# Altium schematic symbol library Basal.SchLib: 108 symbols
Pins are listed as number, name and electrical type; pins without a type are passive.

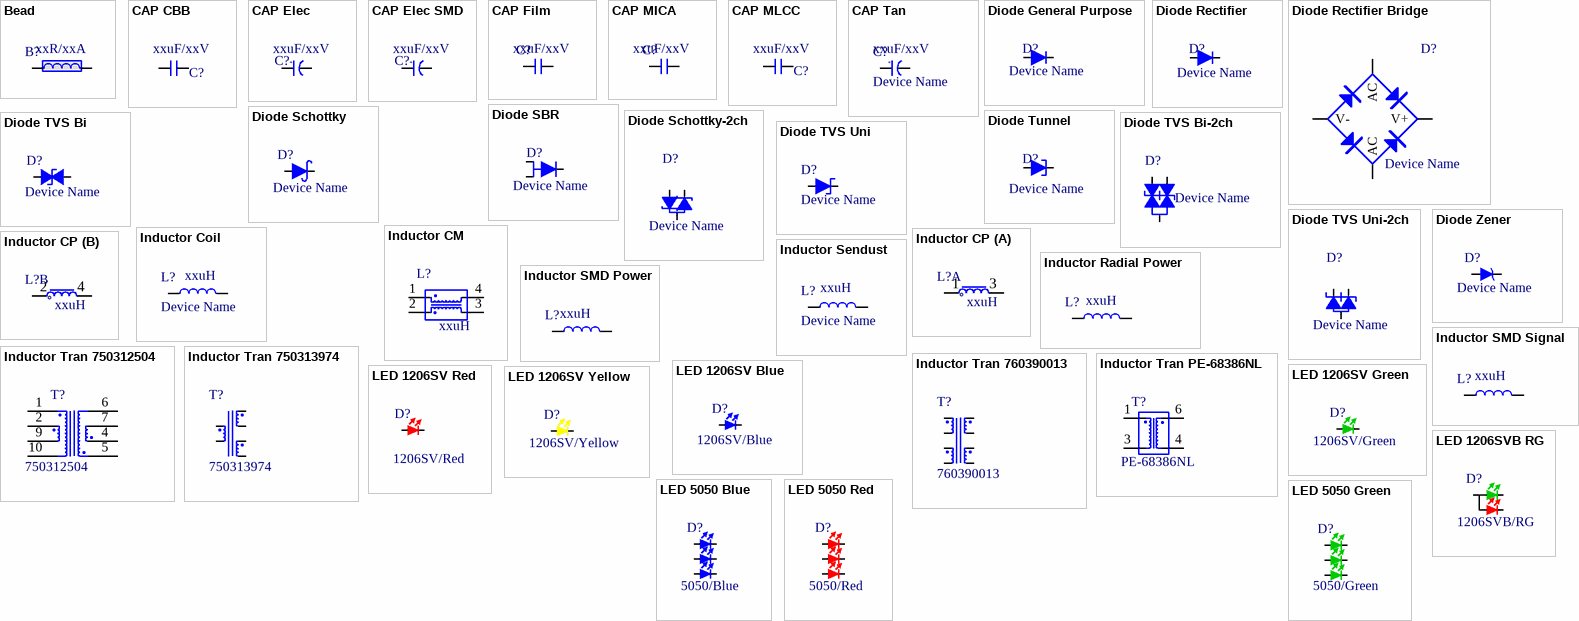
[diagram p0: symbols Bead to LED 5050 Red]

## Bead
designator B?, comment Sch Name: xxR/xxA  (hidden comment: Device Name)
Bead; Manufacture: Device Name
footprint Bead_0805 (贴片电阻0603封装)
footprint Bead_0603 (贴片电阻0603封装)
footprint Bead_1206 (贴片电阻1206封装)
pins: 1, 2

## CAP CBB
designator C?, comment Sch Name: xxuF/xxV  (hidden comment: Device Name)
CAP CBB; Manufacture: Device Name
footprint CAP MLCC 0805 (贴片无极性电容0805封装)
pins: 1, 2

## CAP Elec
designator C?, comment Sch Name: xxuF/xxV  (hidden comment: Device Name)
CAP Aluminum Electrolytic; Manufacture: Device Name
footprint CAP Elec 1F - D X H(φ引线直径)
footprint CAP Elec 2.0-5.0x12.0(φ0.5)
footprint CAP Elec 2.5-6.3X9.0(φ0.6)
footprint CAP Elec 2.5-6.3X11.0(φ0.6)
footprint CAP Elec 3.5-8.0X9.0(φ0.6)
footprint CAP Elec 3.5-8.0X12.0(φ0.6)
footprint CAP Elec 3.5-8.0X12.0(φ0.6) Horizontal
footprint CAP Elec 3.5-8.0X16.0(φ0.6)
footprint CAP Elec 3.5-8.0X16.0(φ0.6) Horizontal
footprint CAP Elec 5.0-10.0X12.0(φ0.6)
footprint CAP Elec 5.0-10.0X12.0(φ0.6) Horizontal
footprint CAP Elec 5.0-10.0X20.0(φ0.6)
footprint CAP Elec 5.0-10.0X20.0(φ0.6) Horizontal
footprint CAP Elec 5.0-12.5X20.0(φ0.6)
footprint CAP Elec 5.0-12.5X20.0(φ0.6) Horizontal
footprint CAP Elec 5.0-12.5X25.0(φ0.6)
footprint CAP Elec 5.0-12.5X25.0(φ0.6) Horizontal
footprint CAP Elec 5.0-12.5X30.0(φ0.6)
footprint CAP Elec 5.0-12.5X30.0(φ0.6) Horizontal
footprint CAP Elec 5.0-12.5X30.0(φ0.6) Horizontal1
footprint CAP Elec 7.5-18.0X40.0(φ0.8)
pins: 1, 2
1 alternate drawing of the same symbol
text: +

## CAP Elec SMD
designator C?, comment Sch Name: xxuF/xxV  (hidden comment: Device Name)
CAP Aluminum Electrolytic SMD; Manufacture: Device Name
footprint CAP Elec SMD φ6.3X5.8
footprint CAP Elec SMD φ8X10.2
footprint CAP Elec SMD φ12X13.5
footprint CAP Elec SMD φ16X16.5
footprint CAP Elec SMD φ16X21.5
footprint CAP Elec SMD D X H
footprint CAP Elec SMD φ10X10.2
pins: 1, 2
1 alternate drawing of the same symbol
text: +

## CAP Film
designator C?, comment Sch Name: xxuF/xxV  (hidden comment: Device Name)
CAP Film; Manufacture: Device Name
footprint CAP Film 1TYPE F - L X W (X H)(φd)
footprint CAP Film WIMA 2.5-5.5X4.6X10(φ0.5)
footprint CAP Film WIMA 5.0-7.0X5.5X11(φ0.5)
footprint CAP Film WIMA 5.0-7.2X2.5X6.6(φ0.5) (Footprint not found)
footprint CAP Film WIMA 5.0-7.2X4.5X6.0(φ0.5) (Footprint not found)
footprint CAP Film WIMA 5.0-7.2X5.0X10.0(φ0.5)
footprint CAP Film WIMA 5.0-7.2X4.5X10.0(φ0.5)
footprint CAP Film WIMA 5.0-7.2X6.5X8.0(φ0.5) (Footprint not found)
footprint CAP Film WIMA 5.0-7.2X7.2X8.5(φ0.5) (Footprint not found)
footprint CAP Film WIMA 5.0-7.2X7.2X13(φ0.5)
footprint CAP Film WIMA 5.0-8.5X7.2X10.0(φ0.5)
footprint CAP Film WIMA 5.0-8.5X7.2X14(φ0.8) Horizontal
footprint CAP Film WIMA 5.0-8.5X7.2X14.0(φ0.5)
footprint CAP Film WIMA 15-18.0X5.0X11.0(φ0.8)
footprint CAP Film WIMA 27.6-32X11X21(φ0.8)
footprint CAP Film WIMA 27.6-32X15X26(φ0.8)
pins: 1, 2

## CAP MICA
designator C?, comment Sch Name: xxuF/xxV  (hidden comment: Device Name)
CAP MICA; Manufacture: Device Name
footprint CAP MICA 1TYPE F - L X W (X H)
footprint CAP MICA 6.0-7.5X3.5(φ0.8)
footprint CAP MICA 8.5-15.0X4.0(φ0.8)
footprint CAP MICA 11.5-22.0X10.0(φ0.8)
pins: 1, 2

## CAP MLCC
designator C?, comment Sch Name: xxuF/xxV  (hidden comment: xxuF/xxV/Footprint)
CAP MLCC; Manufacture: xxuF/xxV/Footprint
footprint CAP MLCC 0402 (贴片无极性电容0402封装)
footprint CAP MLCC 0603 (贴片无极性电容0603封装)
footprint CAP MLCC 0805 (贴片无极性电容0805封装)
footprint CAP MLCC 1206 (贴片无极性电容1206封装)
footprint CAP MLCC 1210 (贴片无极性电容1210封装)
footprint CAP MLCC 1812 (贴片无极性电容1812封装)
footprint CAP MLCC 2220
footprint CAP MLCC 1206 TAIYO (贴片无极性电容1206封装)
footprint CAP MLCC 1808 (贴片无极性电容1812封装)
pins: 1, 2

## CAP Tan
designator C?, comment Device Name  Sch Name: xxuF/xxV
CAP Tantalum; Manufacture: Device Name
footprint CAP Tant 0805/2012-10 (钽电容N型封装)
footprint CAP Tant 1206/3216-18 (钽电容A型封装)
footprint CAP Tant 1210/3528-21 (钽电容B型封装)
footprint CAP Tant 2312/6032-28 (钽电容C型封装)
footprint CAP Tant 2917/7343-31 (钽电容D型封装)
footprint CAP Tant 2917/7343-43 (钽电容E型封装)
footprint CAP Tant 2924/7361-38 (钽电容V型封装)
footprint CAP Tant 1Footprint - H
pins: 1, 2
text: +

## Diode General Purpose
designator D?, comment Device Name
Diode General Purpose; Manufacture: Device Name; Sch Name: Device Name
footprint DIODE SMA(DO-214AC) (SS(1~3)4系列贴片二极管)
footprint DIODE SMB(CASE-403A)
footprint DIODE SMC(DO-214AB) (SS54贴片肖特基二极管)
footprint Diode SOD123 (贴片二极管SOD-123封装)
footprint Diode SOD323
footprint DIODE SOD57
footprint Diode SOD523
footprint DIODE DO-41 (400mil间距直插二极管封装)
footprint DIODE CASE 017AA-01 (400mil间距直插二极管封装)
footprint DIODE DO-35 (400mil间距直插二极管封装)
pins: 1 A, 2 C

## Diode Rectifier
designator D?, comment Device Name
Diode Rectifier; Manufacture: Device Name; Sch Name: Device Name
footprint DIODE SMA(DO-214AC) (SS(1~3)4系列贴片二极管)
footprint DIODE SMB(CASE-403A)
footprint DIODE SMC(DO-214AB) (SS54贴片肖特基二极管)
footprint Diode SOD123 (贴片二极管SOD-123封装)
footprint Diode SOD323
footprint DIODE SOD57
footprint DIODE CASE194
footprint Diode SOD523
footprint Diode DO-201AD (500mil间距直插二极管封装)
footprint DIODE DO-41 (400mil间距直插二极管封装)
footprint DIODE CASE 017AA-01 (400mil间距直插二极管封装)
footprint DIODE DO-35 (400mil间距直插二极管封装)
pins: 1 A, 2 C

## Diode Rectifier Bridge
designator D?, comment Device Name
Diode Rectifier Bridge; Manufacture: Device Name; Sch Name: Device Name
pins: 1 AC, 2 AC, 3 V+, 4 V-

## Diode SBR
designator D?, comment Device Name
Diode Super Barrier Rectifier; Manufacture: Device Name; Sch Name: Device Name
footprint DIODE PowerDI 5
footprint DIODE SMPC(TO-277A)
pins: 1 A, 2 A, 3 C

## Diode Schottky
designator D?, comment Device Name
Diode Schottky; Manufacture: Device Name; Sch Name: Device Name
footprint DIODE SMA(DO-214AC) (SS(1~3)4系列贴片二极管)
footprint DIODE SMB(CASE-403A)
footprint DIODE SMC(DO-214AB) (SS54贴片肖特基二极管)
footprint Diode SOD123 (贴片二极管SOD-123封装)
footprint Diode SOD323
footprint Diode SOD523
footprint Diode PowerDI 123 (贴片二极管SOD-123封装)
footprint TO252-DIODE (MOS管TO-252封装)
footprint DIODE DO-41 (400mil间距直插二极管封装)
footprint DIODE CASE 017AA-01 (400mil间距直插二极管封装)
footprint DIODE DO-35 (400mil间距直插二极管封装)
pins: 1 A, 2 B

## Diode Schottky-2ch
designator D?, comment Device Name
Diode Schottky-2ch; Manufacture: Device Name; Sch Name: Device Name
footprint SOT23-3 (贴片MOS的SOT-23封装)
pins: 1, 2, 3

## Diode Tunnel
designator D?, comment Device Name
Diode Tunnel; Manufacture: Device Name; Sch Name: Device Name
pins: 1 A, 2 B

## Diode TVS Bi
designator D?, comment Device Name
Diode TVS Bidrectional; Manufacture: Device Name; Sch Name: Device Name
footprint DIODE SMA(DO-214AC) (SS(1~3)4系列贴片二极管)
footprint DIODE SMB(CASE-403A)
footprint DIODE SMC(DO-214AB) (SS54贴片肖特基二极管)
footprint Diode SOD123 (贴片二极管SOD-123封装)
footprint Diode SOD323
footprint Diode SOD523
pins: 1, 2

## Diode TVS Bi-2ch
designator D?, comment Device Name
Diode TVS Bi-2ch; Manufacture: Device Name; Sch Name: Device Name
footprint SOT23-3 (贴片MOS的SOT-23封装)
pins: 1, 2, 3

## Diode TVS Uni
designator D?, comment Device Name
Diode TVS Unidirectional; Manufacture: Device Name; Sch Name: Device Name
footprint DIODE SMA(DO-214AC) (SS(1~3)4系列贴片二极管)
footprint DIODE SMB(CASE-403A)
footprint DIODE SMC(DO-214AB) (SS54贴片肖特基二极管)
footprint Diode SOD123 (贴片二极管SOD-123封装)
footprint Diode SOD323
footprint Diode SOD523
pins: 1, 2

## Diode TVS Uni-2ch
designator D?, comment Device Name
Diode TVS Uni-2ch; Manufacture: Device Name; Sch Name: Device Name
footprint SOT23-3 (贴片MOS的SOT-23封装)
pins: 1, 2, 3

## Diode Zener
designator D?, comment Device Name
Diode Zener; Manufacture: Device Name; Sch Name: Device Name
footprint DIODE SMA(DO-214AC) (SS(1~3)4系列贴片二极管)
footprint DIODE SMB(CASE-403A)
footprint DIODE SMC(DO-214AB) (SS54贴片肖特基二极管)
footprint Diode SOD123 (贴片二极管SOD-123封装)
footprint Diode SOD323
footprint Diode SOD523
footprint DIODE DO-41 (400mil间距直插二极管封装)
footprint DIODE CASE 017AA-01 (400mil间距直插二极管封装)
footprint DIODE DO-35 (400mil间距直插二极管封装)
pins: 1 A, 2 K

## Inductor CM
designator L?, comment Sch Name: xxuH  (hidden comment: Device Name)
Inductor Common Mode Choke; Manufacture: Device Name
footprint INDC CM ACM4532
footprint INDC CM ACM7060
footprint INDC CM ACM9070
footprint INDC CM ZJYS51R5-2PT
footprint INDC CM ACT45B
pins: 1, 2, 3, 4

## Inductor Coil
designator L?, comment Device Name  Sch Name: xxuH
Inductor Coil; Manufacture: Device Name
footprint INDC coil N-DXH (10-24X10) Vertical
pins: 1, 2

## Inductor CP
designator L?, comment Sch Name: xxuH  (hidden comment: Device Name)
Inductor Coupled; Manufacture: Device Name
footprint INDC CP MSD1278 (12*12*8共模电感)
footprint INDC CP MSD7342 (7.5*7.5*4.6共模电感)
part A pins: 1, 3
part B pins: 2, 4
part A text: 。
part B text: 。

## Inductor Radial Power
designator L?, comment Sch Name: xxuH  (hidden comment: Device Name)
Inductor Radial Power; Manufacture: Device Name
footprint INDC THP TDK_TSL0808
footprint INDC THP TOKO_A7503AY
footprint INDC THP TOKO_A7503CY
pins: 1, 2

## Inductor Sendust
designator L?, comment Device Name  Sch Name: xxuH
Inductor Sendust; Manufacture: Device Name
footprint L-SENDUST(45-1)
footprint L-SENDUST(45-2)
footprint L-SENDUST(40)
footprint L-SENDUST(18)
footprint L-SENDUST(21)-1
footprint L-SENDUST(16)-1
footprint L-SENDUST(16)-Vertical
pins: 1, 2

## Inductor SMD Power
designator L?, comment Sch Name: xxuH  (hidden comment: Device Name)
Inductor SMD Power; Manufacture: Device Name
footprint INDC SMDP 744325(11x10.5)
footprint INDC SMDP 744355(13x13)
footprint INDC SMDP 744363(PH20) (Wurth大电流电感20 x 20 x 14.5)
footprint INDC SMDP 7447709(12X12X10)
footprint INDC SMDP 74435581200 (22X22.5X12.5)
footprint INDC SMDP CDEP147 (扁铜线电感14.9*14.9*8.0mm)
footprint INDC SMDP CEP1712NP (SUMIDA-CEP1712NP)
footprint INDC SMDP DR73 (TDK贴片功率电感)
footprint INDC SMDP DR74 (TDK贴片功率电感)
footprint INDC SMDP IHLP1212 (VISHAY大电流电感IHLP1212)
footprint INDC SMDP IHLP-1616 (VISHAY大电流电感IHLP1616)
footprint INDC SMDP IHLP-2020 (VISHAY大电流电感IHLP2020)
footprint INDC SMDP IHLP-2525 (VISHAY大电流电感IHLP2525)
footprint INDC SMDP IHLP-3232 (VISHAY大电流电感IHLP3232)
footprint INDC SMDP IHLP-4040 (VISHAY大电流电感IHLP4040)
footprint INDC SMDP IHLP-5050 (VISHAY大电流电感IHLP5050)
footprint INDC SMDP IHLP-6767 (VISHAY大电流电感IHLP6767)
footprint INDC SMDP SER2915H/L (PH26B/C) (SER2915H/L)
footprint INDC SMDP SER2918H/L (PH26A) (SER2915H/L)
footprint INDC SMDP SLF60XX (TDK贴片功率电感)
footprint INDC SMDP SLF70XX (TDK贴片功率电感)
footprint INDC SMDP SLF101XX (TDK贴片功率电感)
footprint INDC SMDP SLF125XX
footprint INDC SMDP SWPA3015 (TDK贴片功率电感)
footprint INDC SMDP SWPA4030 (TDK贴片功率电感)
footprint INDC SMDP SWPA5040 (TDK贴片功率电感)
footprint INDC SMDP SWPA6045 (TDK贴片功率电感)
footprint INDC SMDP SWPA8065 (TDK贴片功率电感)
footprint INDC SMDP SWPA252012 (TDK贴片功率电感)
footprint INDC 0805 (贴片电感0805封装)
footprint INDC 1210 (贴片电感1210封装)
footprint INDC 1812 (贴片电感1210封装)
pins: 1, 2

## Inductor SMD Signal
designator L?, comment Sch Name: xxuH  (hidden comment: Device Name)
Inductor SMD Signal; Manufacture: Device Name
footprint INDC 0805 (贴片电感0805封装)
footprint INDC 1210 (贴片电感1210封装)
footprint INDC 1812 (贴片电感1210封装)
pins: 1, 2

## Inductor Tran 750312504
designator T?, comment 750312504
Inductor Transformer 750312504; Manufacture: 750312504; Sch Name: 750312504
footprint INDC TRAN Wurth 750312504 (SOP, 10-Leads, Body 13.46x13.46mm, Pitch 2.48mm, IPC Low Density)
pins: 1, 2, 4, 5, 6, 7, 9, 10

## Inductor Tran 750313974
designator T?, comment 750313974
Inductor Transformer 750313974; Manufacture: 750313974; Sch Name: 750313974
footprint INDC TRAN Wurth 750313974 (SOP, 8-Leads, Body 13.3x13.6mm (max), Pitch 2.49mm, IPC Medium Density)
pins: 1, 4, 5, 6, 7, 8

## Inductor Tran 760390013
designator T?, comment 760390013
Inductor Transformer 760390013; Manufacture: 760390013; Sch Name: 760390013
footprint INDC TRAN Wurth 760390013 (SOP, 6-Leads, Body 7.00x7.00mm, Pitch 1.85mm, IPC Medium Density)
pins: 1, 2, 2, 3, 4, 5, 5, 6

## Inductor Tran PE-68386NL
designator T?, comment PE-68386NL
Inductor Transformer PE-68386NL; Manufacture: PE-68386NL; Sch Name: PE-68386NL
footprint INDC TRAN PE-68386NL (SOP, 6-Leads, Body 7.00x7.00mm, Pitch 1.85mm, IPC Medium Density)
pins: 1, 3, 4, 6

## LED 1206SV Blue
designator D?, comment Sch Name: 1206SV/Blue  (hidden comment: 12-21/BHC-ZL2N1TY/2C)
LED 1206SV Blue; Manufacture: 12-21/BHC-ZL2N1TY/2C
footprint LED_1206_SV_BLUE
pins: 1, 2

## LED 1206SV Green
designator D?, comment Sch Name: 1206SV/Green  (hidden comment: 12-21/GHC-YQ1R1B18Y/2C)
LED 1206SV Green; Manufacture: 12-21/GHC-YQ1R1B18Y/2C
footprint LED_1206_SV_GREEN
pins: 1, 2

## LED 1206SV Red
designator D?, comment Sch Name: 1206SV/Red  (hidden comment: 12-21/R8C-AN1P2B/2D)
LED 1206SV Red; Manufacture: 12-21/R8C-AN1P2B/2D
footprint LED_1206_SV_Red
pins: 1, 2

## LED 1206SV Yellow
designator D?, comment Sch Name: 1206SV/Yellow  (hidden comment: Device Name)
LED 1206SV Yellow; Manufacture: Device Name
footprint LED_1206_SV_YELLOW
pins: 1, 2

## LED 1206SVB RG
designator D?, comment Sch Name: 1206SVB/RG  (hidden comment: 12-22/R7G6C-A10/2C)
LED 1206SVB RG; Manufacture: 12-22/R7G6C-A10/2C
footprint LED_1206_SVB_RG
pins: 1, 2 R, 3 G

## LED 5050 Blue
designator D?, comment Sch Name: 5050/Blue  (hidden comment: Device Name)
LED 5050 Blue; Manufacture: Device Name
footprint LED_5050_B (5050封装蓝色LED)
pins: 1 A1, 2 A2, 3 A3, 4 C3, 5 C2, 6 C1

## LED 5050 Green
designator D?, comment Sch Name: 5050/Green  (hidden comment: Device Name)
LED 5050 Green; Manufacture: Device Name
footprint LED_5050_G (5050封装绿色LED)
pins: 1 A1, 2 A2, 3 A3, 4 C3, 5 C2, 6 C1

## LED 5050 Red
designator D?, comment Sch Name: 5050/Red  (hidden comment: Device Name)
LED 5050 Red; Manufacture: Device Name
footprint LED_5050_R (5050封装红色LED)
pins: 1 A1, 2 A2, 3 A3, 4 C3, 5 C2, 6 C1

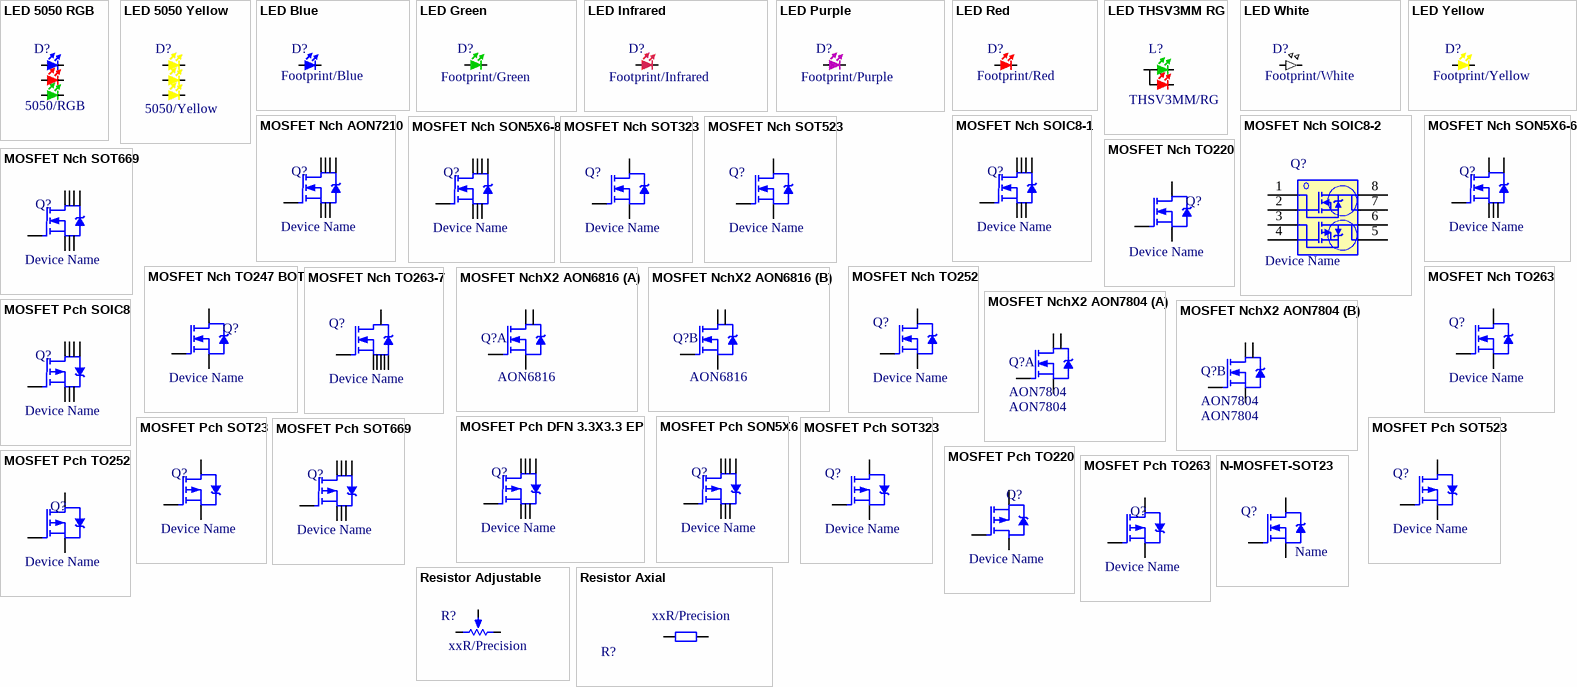
[diagram p1: symbols LED 5050 RGB to Resistor Axial]

## LED 5050 RGB
designator D?, comment Sch Name: 5050/RGB  (hidden comment: Device Name)
LED 5050 RGB; Manufacture: Device Name
footprint LED_5050_RGB (5050封装3色LED)
footprint LED_RGB_9280 (5050封装3色LED)
pins: 1 A1, 2 A2, 3 A3, 4 C3, 5 C2, 6 C1

## LED 5050 Yellow
designator D?, comment Sch Name: 5050/Yellow  (hidden comment: Device Name)
LED 5050 Yellow; Manufacture: Device Name
footprint LED_5050_Y (5050封装黄色LED)
pins: 1 A1, 2 A2, 3 A3, 4 C3, 5 C2, 6 C1

## LED Blue
designator D?, comment Sch Name: Footprint/Blue  (hidden comment: Device Name)
LED Blue; Manufacture: Device Name
footprint LED_0805_B (蓝色贴片0805LED)
footprint LED_0603_B (蓝色贴片0603LED)
footprint LED_1210/3528_B (蓝色贴片1210/3528LED)
footprint LED_1206_B (蓝色贴片1206LED)
footprint LED_TH3MM_B (直插3MMLED_蓝色)
footprint LED_TH5MM_B (直插5MMLED_黄色)
pins: 1, 2

## LED Green
designator D?, comment Sch Name: Footprint/Green  (hidden comment: Device Name)
LED Green; Manufacture: Device Name
footprint LED_0805_G (绿色贴片0805LED)
footprint LED_0603_G (绿色贴片0603LED)
footprint LED_1210/3528_G (绿色贴片1210/3528LED)
footprint LED_1206_G (绿色贴片1206LED)
footprint LED_TH3MM_G (直插3MMLED_绿色)
footprint LED_TH5MM_G (直插5MMLED_绿色)
pins: 1, 2

## LED Infrared
designator D?, comment Sch Name: Footprint/Infrared  (hidden comment: Device Name)
LED Infrared; Manufacture: Device Name
footprint LED_Infrared-3W (直插5MMLED_黄色)
footprint LED_Infrared-5W (直插5MMLED_黄色)
footprint LED_1206_Infrared (红色贴片1206LED)
footprint LED_1210/3528_R (红色贴片1210/3528LED)
footprint LED_1206_bottom
pins: 1, 2

## LED Purple
designator D?, comment Sch Name: Footprint/Purple  (hidden comment: Device Name)
LED Purple; Manufacture: Device Name
footprint LED_0603_P (紫色贴片0603LED)
pins: 1, 2

## LED Red
designator D?, comment Sch Name: Footprint/Red  (hidden comment: Device Name)
LED Red; Manufacture: Device Name
footprint LED_0805_R (红色贴片0805LED)
footprint LED_0603_R (红色贴片0603LED)
footprint LED_1206_R (红色贴片1206LED)
footprint LED_1210/3528_R (红色贴片1210/3528LED)
footprint LED_TH3MM_R (直插3MMLED_红色)
footprint LED_TH5MM_R (直插5MMLED_红色、)
pins: 1, 2

## LED THSV3MM RG
designator L?, comment Sch Name: THSV3MM/RG  (hidden comment: Device Name)
LED THSV3MM RG; Manufacture: Device Name
footprint LED_TH3MM_RG (直插弯3MMLED_RG)
pins: 1, 2, 3

## LED White
designator D?, comment Sch Name: Footprint/White  (hidden comment: Device Name)
LED White; Manufacture: Device Name
footprint LED_0805_W (白色贴片0805LED)
footprint LED_0603_W (白色贴片0603LED)
pins: 1, 2

## LED Yellow
designator D?, comment Sch Name: Footprint/Yellow  (hidden comment: Device Name)
LED Yellow; Manufacture: Device Name
footprint LED_0805_Y (黄色贴片0805LED)
footprint LED_0603_Y (黄色贴片0603LED)
footprint LED_1210/3528_Y (黄色贴片1210/3528LED)
footprint LED_1206_Y (黄色贴片1206LED)
footprint LED_TH3MM_Y (直插3MMLED_黄色)
footprint LED_TH5MM_Y (直插5MMLED_黄色)
pins: 1, 2

## MOSFET Nch AON7210
designator Q?, comment Device Name
N-channel AON7210; Manufacture: Device Name; Sch Name: Device Name
footprint DFN3.3X3.3_8L EP1
pins: 1 S, 2 S, 3 S, 4 G, 5 D, 6 D, 7 D, 8 D

## MOSFET Nch SOIC8-1
designator Q?, comment Device Name
N-channel; Manufacture: Device Name; Sch Name: Device Name
footprint SOIC8_1.27 (SOP, 8-Leads, Pitch 1.27mm)
pins: 1 S, 2 S, 3 S, 4 G, 5 D, 6 D, 7 D, 8 D

## MOSFET Nch SOIC8-2
designator Q?, comment Device Name
MOSFET NchX2 SOIC8-2; Manufacture: Device Name; Sch Name: Device Name
footprint SOIC8_1.27 (SOP, 8-Leads, Pitch 1.27mm)
pins: 1 S1, 2 G1, 3 S2, 4 G2, 5 D2, 6 D2, 7 D1, 8 D1

## MOSFET Nch SON5X6-6
designator Q?, comment Device Name
N-channel MOSFET; Manufacture: Device Name; Sch Name: Device Name
footprint SON5X6-6
footprint SON5X6-6 PWR
pins: 1 S, 2 S, 3 S, 4 G, 5 D, 8 D

## MOSFET Nch SON5X6-8
designator Q?, comment Device Name
N-channel MOSFET; Manufacture: Device Name; Sch Name: Device Name
footprint SON5X6-8
footprint SON5X6-8 PWR
pins: 1 S, 2 S, 3 S, 4 G, 5 D, 6 D, 7 D, 8 D

## MOSFET Nch SOT323
designator Q?, comment Device Name
N-channel MOSFET; Manufacture: Device Name; Sch Name: Device Name
footprint SOT323
pins: 1 G, 2 S, 3 D

## MOSFET Nch SOT523
designator Q?, comment Device Name
N-channel MOSFET; Manufacture: Device Name; Sch Name: Device Name
footprint SOT523
pins: 1 G, 2 S, 3 D

## MOSFET Nch SOT669
designator Q?, comment Device Name
N-channel; Manufacture: Device Name; Sch Name: Device Name
footprint SOT669 (SOP, 8-Leads, Pitch 1.27mm)
footprint SOT669 PWR (SOP, 8-Leads, Pitch 1.27mm)
pins: 1 S, 2 S, 3 S, 4 G, 5 D, 6 D, 7 D, 8 D

## MOSFET Nch TO220
designator Q?, comment Device Name
N- channe MOSFET; Manufacture: Device Name; Sch Name: Device Name
footprint TO220-BOT
footprint TO220-TOP
pins: 1 G, 2 D, 3 S

## MOSFET Nch TO247 BOT
designator Q?, comment Device Name
N- channe MOSFET; Manufacture: Device Name; Sch Name: Device Name
footprint TO247-BOT
pins: 1 G, 2 D, 3 S

## MOSFET Nch TO252
designator Q?, comment Device Name
N-channel MOSFET; Manufacture: Device Name; Sch Name: Device Name
footprint TO252 (MOS管TO-252封装)
footprint TO252_PWR (MOS管TO-252封装,带散热过孔)
pins: 1 G, 2 D, 3 S

## MOSFET Nch TO263
designator Q?, comment Device Name
N-channel MOSFET; Manufacture: Device Name; Sch Name: Device Name
footprint TO263-2
footprint TO252_PWR (MOS管TO-252封装,带散热过孔)
pins: 1 G, 2 D, 3 S

## MOSFET Nch TO263-7
designator Q?, comment Device Name
N-channel MOSFET; Manufacture: Device Name; Sch Name: Device Name
footprint TO263-7
pins: 1 G, 2 S, 3 S, 5 S, 6 S, 7 S, 8 D

## MOSFET NchX2 AON6816
designator Q?, comment AON6816
MOSFET NchX2 AON6816; Manufacture: AON6816; Sch Name: AON6816
footprint SON5X6-8 EP2
part A pins: 1 S1, 2 G1, 7 D1, 8 D1
part B pins: 3 S2, 4 G2, 5 D2, 6 D2

## MOSFET NchX2 AON7804
designator Q?, comment AON7804
MOSFET NchX2 AON7804; Manufacture: AON7804; Sch Name: AON7804
footprint DFN3X3_8L_EP2
part A pins: 1 D, 2 D, 7 S, 8 G
part B pins: 3 S, 4 G, 5 D, 6 D

## MOSFET Pch DFN 3.3X3.3 EP
designator Q?, comment Device Name
P-channel DFN 3.3X3.3 EP; Manufacture: Device Name; Sch Name: Device Name
footprint DFN3.3X3.3_8L EP1
pins: 1 S, 2 S, 3 S, 4 G, 5 D, 6 D, 7 D, 8 D

## MOSFET Pch SOIC8
designator Q?, comment Device Name
P-channel MOSFET; Manufacture: Device Name; Sch Name: Device Name
footprint SOIC8_1.27 (SOP, 8-Leads, Pitch 1.27mm)
pins: 1 S, 2 S, 3 S, 4 G, 5 D, 6 D, 7 D, 8 D

## MOSFET Pch SON5X6
designator Q?, comment Device Name
P-channel MOSFET; Manufacture: Device Name; Sch Name: Device Name
footprint SON5X6-8
footprint SON5X6-8 PWR
pins: 1 S, 2 S, 3 S, 4 G, 5 D, 6 D, 7 D, 8 D

## MOSFET Pch SOT23
designator Q?, comment Device Name
P-channel MOSFET; Manufacture: Device Name; Sch Name: Device Name
footprint SOT23-3 (贴片MOS的SOT-23封装)
footprint SOT23-3W (贴片MOS的SOT-23封装)
pins: 1 G, 2 S, 3 D

## MOSFET Pch SOT323
designator Q?, comment Device Name
P-channel MOSFET; Manufacture: Device Name; Sch Name: Device Name
footprint SOT323
pins: 1 G, 2 S, 3 D

## MOSFET Pch SOT523
designator Q?, comment Device Name
P-channel MOSFET; Manufacture: Device Name; Sch Name: Device Name
footprint SOT523
pins: 1 G, 2 S, 3 D

## MOSFET Pch SOT669
designator Q?, comment Device Name
P-channel MOSFET; Manufacture: Device Name; Sch Name: Device Name
footprint SOT669 PWR (SOP, 8-Leads, Pitch 1.27mm)
footprint SOT669 (SOP, 8-Leads, Pitch 1.27mm)
pins: 1 S, 2 S, 3 S, 4 G, 5 D, 6 D, 7 D, 8 D

## MOSFET Pch TO220
designator Q?, comment Device Name
P-channel MOSFET; Manufacture: Device Name; Sch Name: Device Name
footprint TO220
footprint TO220-BOT
footprint TO220-TOP
pins: 1 G, 2 D, 3 S

## MOSFET Pch TO252
designator Q?, comment Device Name
P-channel MOSFET; Manufacture: Device Name; Sch Name: Device Name
footprint TO252 (MOS管TO-252封装)
footprint TO252_PWR (MOS管TO-252封装,带散热过孔)
pins: 1 G, 2 D, 3 S

## MOSFET Pch TO263
designator Q?, comment Device Name
P-channel MOSFET; Manufacture: Device Name; Sch Name: Device Name
footprint TO263-2
pins: 1 G, 2 D, 3 S

## N-MOSFET-SOT23
designator Q?, comment Sch Name: Name  (hidden comment: Device Name)
N-channel MOSFET; Manufacture: Device Name
footprint SOT23-3 (贴片MOS的SOT-23封装)
footprint SOT23-3W (贴片MOS的SOT-23封装)
pins: 1 G, 2 S, 3 D

## Resistor Adjustable
designator R?, comment Sch Name: xxR/Precision  (hidden comment: Device Name)
Resistor Adjustable; Manufacture: Device Name
footprint RES ADJ3296
footprint RES ADJ3224W
pins: 1 TOP, 2 TAP, 3 BOT

## Resistor Axial
designator R?, comment Sch Name: xxR/Precision  (hidden comment: xxR/Precision/Footprint)
Resistor Through Hole; Manufacture: xxR/Precision/Footprint
footprint RES AXIAL-1/4W (400mil间距M型直插电阻封装)
footprint RES AXIAL-2W (900mil间距M型直插电阻封装)
footprint RES AXIAL-3W (900mil间距M型直插电阻封装)
pins: 1, 2

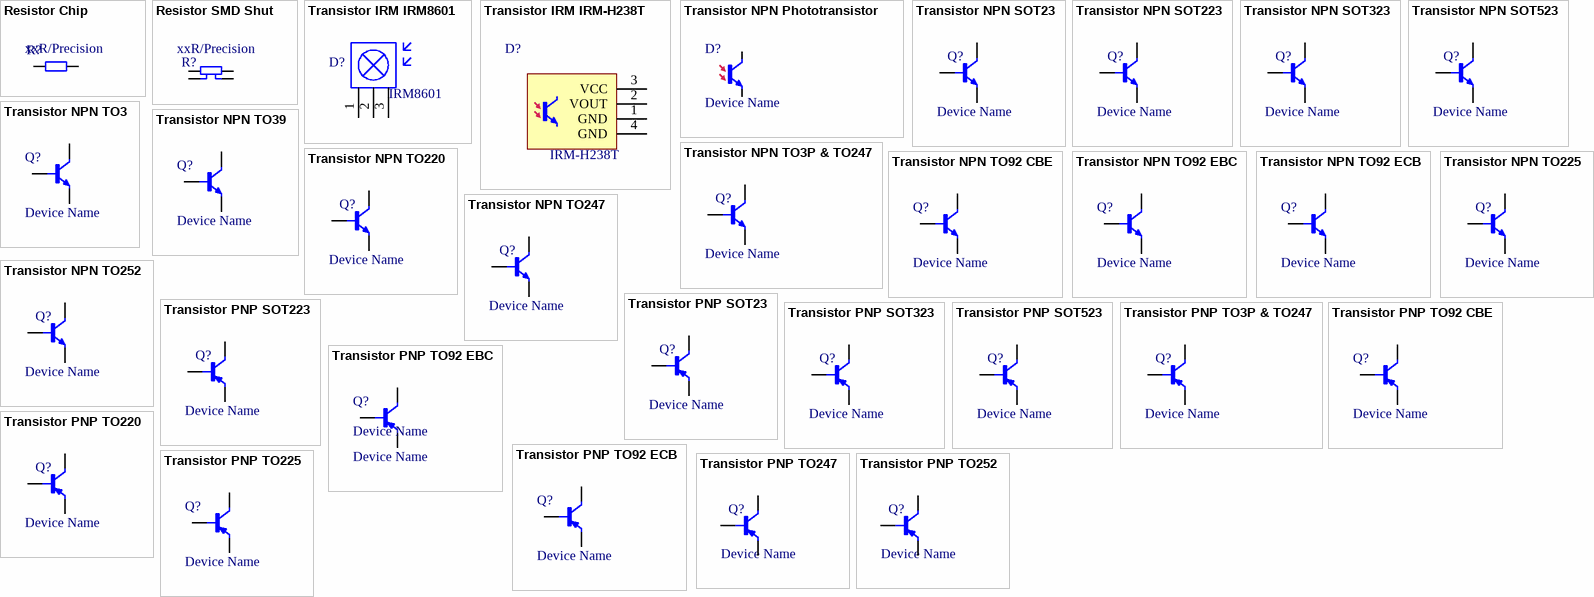
[diagram p2: symbols Resistor Chip to Transistor PNP TO252]

## Resistor Chip
designator R?, comment Sch Name: xxR/Precision  (hidden comment: xxR/Precision/Footprint)
Resistor Chip; Manufacture: xxR/Precision/Footprint
footprint RES 0402 (贴片电阻0402封装)
footprint RES 0603 (贴片电阻0603封装)
footprint RES 0805 (贴片电阻0805封装)
footprint RES 0612 (贴片电阻2512封装)
footprint RES 1206 (贴片电阻1206封装)
footprint RES 1210 (贴片电阻1210封装)
footprint RES 1812 (贴片电阻1812封装)
footprint RES 2010 (贴片电阻2010封装)
footprint RES 2512 (贴片电阻2512封装)
footprint RES 2512-shut (贴片电阻2512封装)
footprint RES 5930
footprint RES 1225 (贴片电阻1225封装)
footprint RES 3920
pins: 1, 2

## Resistor SMD Shut
designator R?, comment Sch Name: xxR/Precision  (hidden comment: xxR/Precision/Footprint)
Resistor SMD Shut; Manufacture: xxR/Precision/Footprint
footprint RES 2512-shut2 (贴片电阻2512封装)
footprint RES 2512-shut3 (贴片电阻2512封装)
pins: 1, 2, 3, 4

## Transistor IRM IRM8601
designator D?, comment IRM8601
Infrared Receiver Module; Manufacture: IRM8601; Sch Name: IRM8601
footprint Transistor IRM IRM8601 (红外遥控接收头)
pins: 1, 2, 3

## Transistor IRM IRM-H238T
designator D?, comment Sch Name: IRM-H238T  (hidden comment: IRM-H238T-TR2)
Infrared Receiver Module; Manufacture: IRM-H238T-TR2
footprint Transistor IRM IRM-H238T (红外遥控接收头)
pins: 1 GND, 2 VOUT, 3 VCC, 4 GND

## Transistor NPN Phototransistor
designator D?, comment Device Name
Infrared Phototransistor; Manufacture: Device Name; Sch Name: Device Name
footprint LED_1206_BLACK (红色贴片1206LED)
footprint LED_1210/3528_R (红色贴片1210/3528LED)
footprint LED_1206_bottom
pins: 1 C, 2 E

## Transistor NPN SOT23
designator Q?, comment Device Name
NPN Transistor; Manufacture: Device Name; Sch Name: Device Name
footprint SOT23-3 (贴片MOS的SOT-23封装)
footprint SOT23-3W (贴片MOS的SOT-23封装)
pins: 1 b (power), 2 e (power), 3 c (power)

## Transistor NPN SOT223
designator Q?, comment Device Name
NPN Transistor; Manufacture: Device Name; Sch Name: Device Name
footprint SOT223
pins: 1 b, 2 c, 3 e, 4 c

## Transistor NPN SOT323
designator Q?, comment Device Name
NPN Transistor; Manufacture: Device Name; Sch Name: Device Name
footprint SOT323
pins: 1 b (power), 2 e (power), 3 c (power)

## Transistor NPN SOT523
designator Q?, comment Device Name
NPN Transistor; Manufacture: Device Name; Sch Name: Device Name
footprint SOT523
pins: 1 b (power), 2 e (power), 3 c (power)

## Transistor NPN TO3
designator Q?, comment Device Name
NPN Transistor; Manufacture: Device Name; Sch Name: Device Name
footprint TO3
pins: 1 b (power), 2 e (power), 3 c (power)

## Transistor NPN TO3P & TO247
designator Q?, comment Device Name
NPN Transistor; Manufacture: Device Name; Sch Name: Device Name
footprint TO3P & TO247
pins: 1 B (power), 2 C (power), 3 E (power)

## Transistor NPN TO39
designator Q?, comment Device Name
NPN Transistor; Manufacture: Device Name; Sch Name: Device Name
footprint TO39
pins: 1 (power), 2 b (power), 3 c (power)

## Transistor NPN TO92 CBE
designator Q?, comment Device Name
NPN Transistor; Manufacture: Device Name; Sch Name: Device Name
footprint TO92
footprint TO92 Bent
pins: 1 c (power), 2 b (power), 3 e (power)

## Transistor NPN TO92 EBC
designator Q?, comment Device Name
NPN Transistor; Manufacture: Device Name; Sch Name: Device Name
footprint TO92
footprint TO92 Bent
pins: 1 e (power), 2 b (power), 3 c (power)

## Transistor NPN TO92 ECB
designator Q?, comment Device Name
NPN Transistor; Manufacture: Device Name; Sch Name: Device Name
footprint TO92
footprint TO92 Bent
pins: 1 e (power), 2 c (power), 3 b (power)

## Transistor NPN TO220
designator Q?, comment Device Name
NPN Transistor; Manufacture: Device Name; Sch Name: Device Name
footprint TO220
footprint TO220-TOP
footprint TO220-BOT
pins: 1 b (power), 2 c (power), 3 e (power)

## Transistor NPN TO225
designator Q?, comment Device Name
NPN Transistor; Manufacture: Device Name; Sch Name: Device Name
footprint TO225
footprint TO225-Heat Sink 10.5X15
footprint TO225-Heat Sink 17X23.5
footprint TO225-BOT
pins: 1 e (power), 2 c (power), 3 b (power)

## Transistor NPN TO247
designator Q?, comment Device Name
NPN Transistor; Manufacture: Device Name; Sch Name: Device Name
footprint TO247-BOT
pins: 1 B (power), 2 C (power), 3 E (power)

## Transistor NPN TO252
designator Q?, comment Device Name
NPN Transistor; Manufacture: Device Name; Sch Name: Device Name
footprint TO252 (MOS管TO-252封装)
footprint TO252_PWR (MOS管TO-252封装,带散热过孔)
pins: 1 b, 2 c, 3 e

## Transistor PNP SOT23
designator Q?, comment Device Name
PNP Transistor; Manufacture: Device Name; Sch Name: Device Name
footprint SOT23-3
footprint SOT23-3W (贴片MOS的SOT-23封装)
pins: 1 b (power), 2 e (power), 3 c (power)

## Transistor PNP SOT223
designator Q?, comment Device Name
PNP Transistor; Manufacture: Device Name; Sch Name: Device Name
footprint SOT223
pins: 1 b, 2 c, 3 e, 4 c

## Transistor PNP SOT323
designator Q?, comment Device Name
PNP Transistor; Manufacture: Device Name; Sch Name: Device Name
footprint SOT323
pins: 1 b (power), 2 e (power), 3 c (power)

## Transistor PNP SOT523
designator Q?, comment Device Name
PNP Transistor; Manufacture: Device Name; Sch Name: Device Name
footprint SOT523
pins: 1 b (power), 2 e (power), 3 c (power)

## Transistor PNP TO3P & TO247
designator Q?, comment Device Name
PNP Transistor; Manufacture: Device Name; Sch Name: Device Name
footprint TO3P & TO247
pins: 1 b, 2 c, 3 e

## Transistor PNP TO92 CBE
designator Q?, comment Device Name
PNP Transistor; Manufacture: Device Name; Sch Name: Device Name
footprint TO92
footprint TO92 Bent
pins: 1 e, 2 b, 3 c

## Transistor PNP TO92 EBC
designator Q?, comment Device Name
PNP Transistor; Manufacture: Device Name; Sch Name: Device Name
footprint TO92
footprint TO92 Bent
pins: 1 e, 2 b, 3 c

## Transistor PNP TO92 ECB
designator Q?, comment Device Name
PNP Transistor; Manufacture: Device Name; Sch Name: Device Name
footprint TO92
footprint TO92 Bent
pins: 1 e, 2 c, 3 b

## Transistor PNP TO220
designator Q?, comment Device Name
PNP Transistor; Manufacture: Device Name; Sch Name: Device Name
footprint TO220
footprint TO220S
footprint TO220-BOTTOM
pins: 1 b, 2 c, 3 e

## Transistor PNP TO225
designator Q?, comment Device Name
PNP Transistor; Manufacture: Device Name; Sch Name: Device Name
footprint TO225
footprint TO225-Heat Sink 10.5X15
footprint TO225-Heat Sink 17X23.5
footprint TO225-弯针底层
pins: 1 e, 2 c, 3 b

## Transistor PNP TO247
designator Q?, comment Device Name
PNP Transistor; Manufacture: Device Name; Sch Name: Device Name
footprint TO247-BOT
pins: 1 b, 2 c, 3 e

## Transistor PNP TO252
designator Q?, comment Device Name
PNP Transistor; Manufacture: Device Name; Sch Name: Device Name
footprint TO252 (MOS管TO-252封装)
footprint TO252_PWR (MOS管TO-252封装,带散热过孔)
pins: 1 b, 2 c, 3 e